# EAGLE library part PIC16F1825-X_SL (library PIC16F1825)
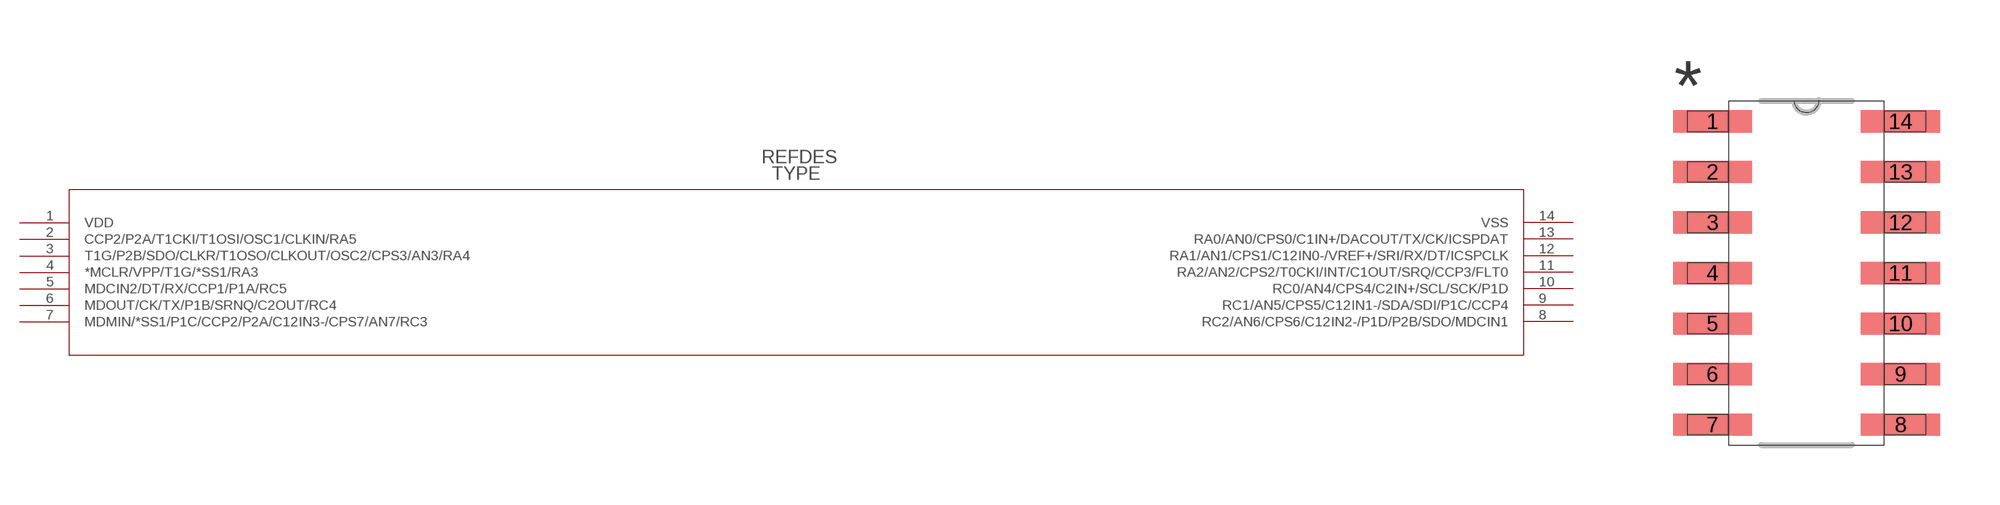
[diagram p1: symbol with the pads of SOIC14-N_MC; footprint SOIC14-N_MC]

Designator prefix U

## PIC16F1825-X_SL  [SOIC14-N_MC]
1  VDD  pas
2  CCP2/P2A/T1CKI/T1OSI/OSC1/CLKIN/RA5  pas
3  T1G/P2B/SDO/CLKR/T1OSO/CLKOUT/OSC2/CPS3/AN3/RA4  pas
4  *MCLR/VPP/T1G/*SS1/RA3  pas
5  MDCIN2/DT/RX/CCP1/P1A/RC5  pas
6  MDOUT/CK/TX/P1B/SRNQ/C2OUT/RC4  pas
7  MDMIN/*SS1/P1C/CCP2/P2A/C12IN3-/CPS7/AN7/RC3  pas
8  RC2/AN6/CPS6/C12IN2-/P1D/P2B/SDO/MDCIN1  pas
9  RC1/AN5/CPS5/C12IN1-/SDA/SDI/P1C/CCP4  pas
10  RC0/AN4/CPS4/C2IN+/SCL/SCK/P1D  pas
11  RA2/AN2/CPS2/T0CKI/INT/C1OUT/SRQ/CCP3/FLT0  pas
12  RA1/AN1/CPS1/C12IN0-/VREF+/SRI/RX/DT/ICSPCLK  pas
13  RA0/AN0/CPS0/C1IN+/DACOUT/TX/CK/ICSPDAT  pas
14  VSS  pas

## Footprint SOIC14-N_MC (pad centres in mm)
smd 1.981 x 0.559: 1 -2.362,3.81; 2 -2.362,2.54; 3 -2.362,1.27; 4 -2.362,0; 5 -2.362,-1.27; 6 -2.362,-2.54; 7 -2.362,-3.81; 8 2.362,-3.81; 9 2.362,-2.54; 10 2.362,-1.27; 11 2.362,0; 12 2.362,1.27; 13 2.362,2.54; 14 2.362,3.81